# EAGLE library part W5100 (library lpatiny copy)
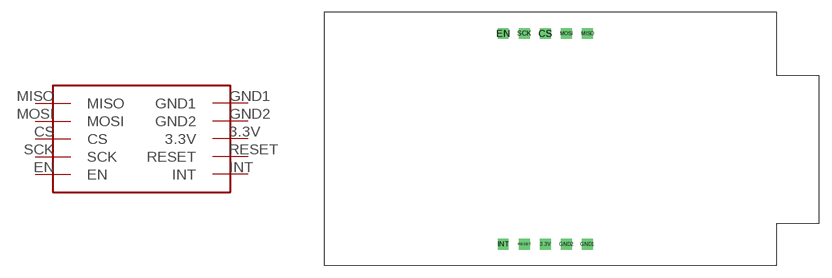
[diagram p6: symbol with the pads of W5100; footprint W5100]

Designator prefix -

## W5100  [W5100]
3.3V  3.3V  pwr
CS  CS
EN  EN
GND1  GND1
GND2  GND2
INT  INT
MISO  MISO
MOSI  MOSI
RESET  RESET
SCK  SCK

## Footprint W5100 (pad centres in mm)
drill 0.8 square: 3.3V 0,-12.7; CS 0,12.7; EN -5.08,12.7; GND1 5.08,-12.7; GND2 2.54,-12.7; INT -5.08,-12.7; MISO 5.08,12.7; MOSI 2.54,12.7; RESET -2.54,-12.7; SCK -2.54,12.7